# EAGLE library part CURR_MEASURE (library rev1_lbr)
Broadcom Limited Part #: ACHS-7124-000E Current measuring device.
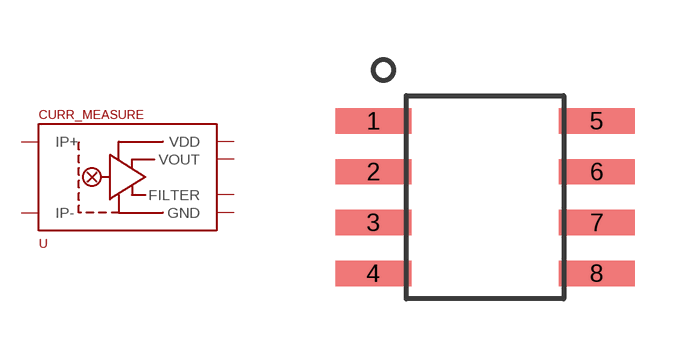
[diagram p0: symbol with the pads of SO-8; footprint SO-8]

Designator prefix U

## CURR_MEASURE  [SO-8]
1  IP+
2  IP+
3  IP-
4  IP-
5  GND
6  FILTER
7  VOUT
8  VDD

## Footprint SO-8 (pad centres in mm)
smd 1.905 x 0.635: 1 -2.794,1.905; 2 -2.794,0.635; 3 -2.794,-0.635; 4 -2.794,-1.905; 5 2.794,1.905; 6 2.794,0.635; 7 2.794,-0.635; 8 2.794,-1.905